# Altium footprint library con-wago.PCBLIB: 167 footprints (part 7 of 11)
Each footprint in its own frame and in the unit in brackets; x right, y up, seen from the top. Pads: shape width x height; smd on the part's side, far side on the other; paste and mask are expansions set on the pad; w line width, h text height; cw(c..) or ccw(c..) is an arc to the next point about the centre after c.
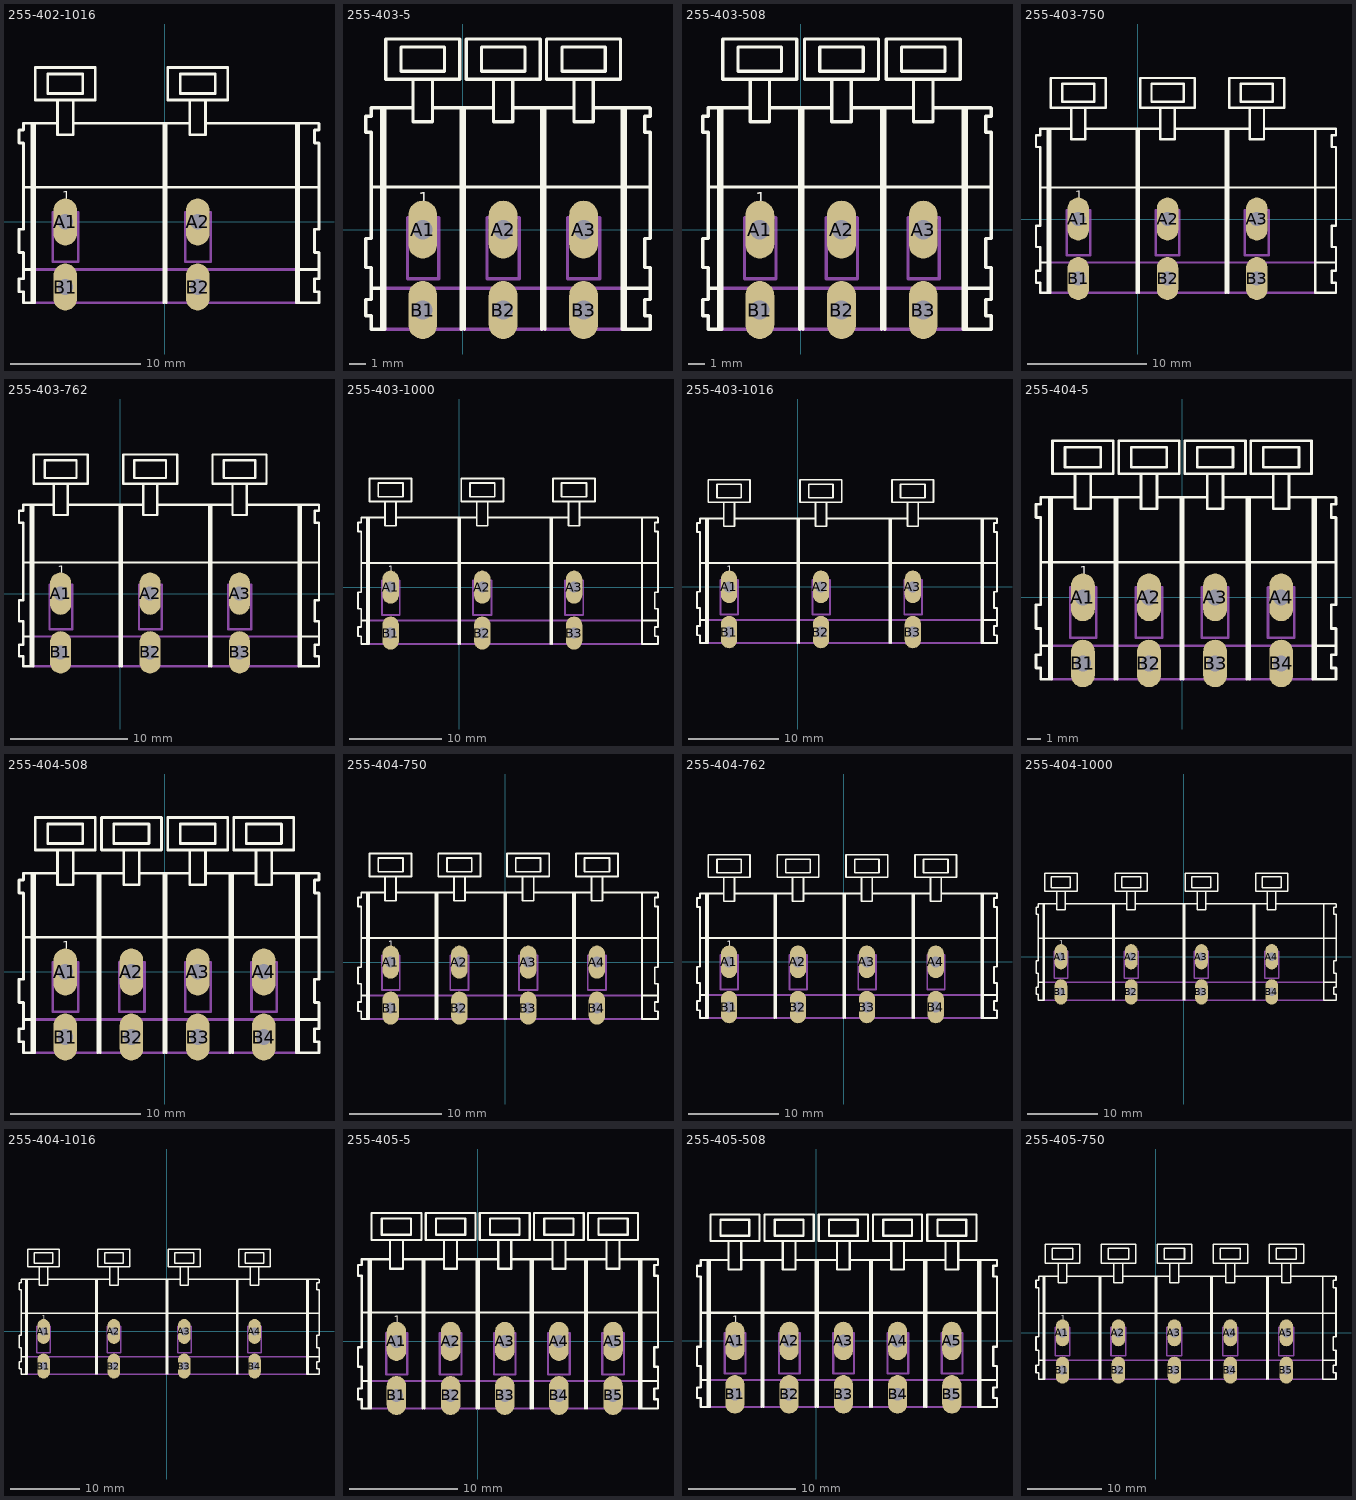
[diagram p6: the footprints below, top view; thin cyan lines are the x and y axes]

## 255-402-1016 [mm]
pads (4):
  oval 1.8x3.6 hole 1.2: A1(-7.62,0) A2(2.54,0) B1(-7.62,-5) B2(2.54,-5)
Top Overlay:
  lines w0.203: -10.82,-3.65 -10.12,-3.65 ; -10.77,2.65 11.8,2.65 ; -10.17,7.55 -10.17,-6.2 ; -9.97,7.55 -9.97,-6.2 -10.17,-6.2 ; -8.245,7.575 -10.82,7.575 -10.82,7.05 -11.17,7.05 -11.17,6.05 -10.82,6.05 -10.82,-0.55 -11.17,-0.55 -11.17,-2.35 -10.82,-2.35 -10.82,-4.35 -11.17,-4.35 -11.17,-5.35 -10.82,-5.35 -10.82,-6.2 -10.17,-6.2 ; -6.995,7.575 1.919,7.575 ; -0.06,-6.2 -0.06,7.55 ; 0.14,-6.2 0.14,7.55 ; 3.165,7.575 11.825,7.575 ; 10.1,7.55 10.1,-6.2 11.85,-6.2 11.85,-5.35 11.5,-5.35 11.5,-4.35 11.85,-4.35 11.85,-3.65 ; 10.15,-3.65 11.85,-3.65 ; 10.3,-6.2 10.3,7.55 ; 11.85,7.55 11.85,7.05 11.5,7.05 11.5,6.05 11.85,6.05 11.85,-0.55 11.5,-0.55 11.5,-2.35 11.85,-2.35 11.85,-3.65 ; -8.22,9.35 -9.92,9.35 -9.92,11.85 -5.32,11.85 -5.32,9.35 -7.02,9.35 ; -8.22,9.35 -7.02,9.35 ; -8.22,9.35 -8.22,6.7 -7.02,6.7 -7.02,9.35 ; 1.94,9.35 0.24,9.35 0.24,11.85 4.84,11.85 4.84,9.35 3.14,9.35 ; 1.94,9.35 3.14,9.35 ; 1.94,9.35 1.94,6.7 3.14,6.7 3.14,9.35 ; -8.97,9.85 -8.97,11.35 -6.27,11.35 -6.27,9.85 -8.97,9.85 ; 1.19,9.85 1.19,11.35 3.89,11.35 3.89,9.85 1.19,9.85
  text "1" at -7.87,1.35 h1.26
Mechanical 16:
  lines w0.203: -10.12,-3.65 10.1,-3.65 ; -9.97,-6.2 10.1,-6.2 ; -8.57,-3.05 -8.57,0.75 -6.62,0.75 -6.62,-3.05 -8.57,-3.05 ; 1.59,-3.05 1.59,0.75 3.54,0.75 3.54,-3.05 1.59,-3.05

## 255-403-5 [mm]
pads (6):
  oval 1.8x3.6 hole 1.2: A1(-2.5,0) A2(2.5,0) A3(7.5,0) B1(-2.5,-5) B2(2.5,-5) B3(7.5,-5)
Top Overlay:
  lines w0.203: -5.7,-3.65 -5,-3.65 ; -5.65,2.65 -0.1,2.65 ; -5.05,7.55 -5.05,-6.2 ; -4.85,7.55 -4.85,-6.2 -5.05,-6.2 ; -3.125,7.575 -5.7,7.575 -5.7,7.05 -6.05,7.05 -6.05,6.05 -5.7,6.05 -5.7,-0.55 -6.05,-0.55 -6.05,-2.35 -5.7,-2.35 -5.7,-4.35 -6.05,-4.35 -6.05,-5.35 -5.7,-5.35 -5.7,-6.2 -5.05,-6.2 ; -1.825,7.575 1.875,7.575 ; -0.1,-6.2 -0.1,2.65 ; -0.1,7.55 -0.1,2.65 ; 0.1,-6.2 0.1,2.65 ; 0.1,7.55 0.1,2.65 ; 3.125,7.575 6.875,7.575 ; 4.9,-6.2 4.9,2.65 ; 4.9,7.55 4.9,2.65 ; 5.1,-6.2 5.1,2.65 ; 5.1,7.55 5.1,2.65 ; 8.125,7.575 11.625,7.575 ; 9.9,7.55 9.9,2.65 ; 9.95,-3.65 11.65,-3.65 ; 10.1,7.55 10.1,2.65 ; 11.6,2.65 10.1,2.65 ; 11.65,7.55 11.65,7.05 11.3,7.05 11.3,6.05 11.65,6.05 11.65,-0.55 11.3,-0.55 11.3,-2.35 11.65,-2.35 11.65,-3.65 ; -3.1,9.35 -4.8,9.35 -4.8,11.85 -0.2,11.85 -0.2,9.35 -1.9,9.35 ; -3.1,9.35 -1.9,9.35 ; -3.1,9.35 -3.1,6.7 -1.9,6.7 -1.9,9.35 ; 0.1,2.65 4.9,2.65 ; 1.9,9.35 0.2,9.35 0.2,11.85 4.8,11.85 4.8,9.35 3.1,9.35 ; 1.9,9.35 3.1,9.35 ; 1.9,9.35 1.9,6.7 3.1,6.7 3.1,9.35 ; 4.9,2.65 5.1,2.65 ; 5.1,2.65 9.9,2.65 ; 6.9,9.35 5.2,9.35 5.2,11.85 9.8,11.85 9.8,9.35 8.1,9.35 ; 6.9,9.35 8.1,9.35 ; 6.9,9.35 6.9,6.7 8.1,6.7 8.1,9.35 ; 9.9,2.65 10.1,2.65 ; 9.9,2.65 9.9,-6.2 10.1,-6.2 ; 10.1,-6.2 11.65,-6.2 11.65,-5.35 11.3,-5.35 11.3,-4.35 11.65,-4.35 11.65,-3.65 ; 10.1,-6.2 10.1,2.65 ; -3.85,9.85 -3.85,11.35 -1.15,11.35 -1.15,9.85 -3.85,9.85 ; 1.15,9.85 1.15,11.35 3.85,11.35 3.85,9.85 1.15,9.85 ; 6.15,9.85 6.15,11.35 8.85,11.35 8.85,9.85 6.15,9.85
  text "1" at -2.75,1.35 h1.26
Mechanical 16:
  lines w0.203: -5,-3.65 9.9,-3.65 ; -4.85,-6.2 9.9,-6.2 ; -3.45,-3.05 -3.45,0.75 -1.5,0.75 -1.5,-3.05 -3.45,-3.05 ; 1.5,-3.05 1.5,0.75 3.5,0.75 3.5,-3.05 1.5,-3.05 ; 6.5,-3.05 6.5,0.75 8.5,0.75 8.5,-3.05 6.5,-3.05

## 255-403-508 [mm]
pads (6):
  oval 1.8x3.6 hole 1.2: A1(-2.54,0) A2(2.54,0) A3(7.62,0) B1(-2.54,-5) B2(2.54,-5) B3(7.62,-5)
Top Overlay:
  lines w0.203: -5.74,-3.65 -5.04,-3.65 ; -5.69,2.65 -0.61,2.65 ; -5.09,7.55 -5.09,-6.2 ; -4.89,7.55 -4.89,-6.2 -5.09,-6.2 ; -3.165,7.575 -5.74,7.575 -5.74,7.05 -6.09,7.05 -6.09,6.05 -5.74,6.05 -5.74,-0.55 -6.09,-0.55 -6.09,-2.35 -5.74,-2.35 -5.74,-4.35 -6.09,-4.35 -6.09,-5.35 -5.74,-5.35 -5.74,-6.2 -5.09,-6.2 ; -1.915,7.575 1.919,7.575 ; -0.06,-6.2 -0.06,2.65 ; -0.06,7.55 -0.06,2.65 ; 0.14,-6.2 0.14,7.55 ; 3.165,7.575 7.01,7.575 ; 5.02,-6.2 5.02,2.65 ; 5.02,7.55 5.02,2.65 ; 5.22,-6.2 5.22,7.55 ; 8.23,7.575 11.825,7.575 ; 10.1,7.55 10.1,2.65 ; 10.15,-3.65 11.85,-3.65 ; 10.3,-6.2 10.3,7.55 ; 11.8,2.65 10.1,2.65 ; 11.85,7.55 11.85,7.05 11.5,7.05 11.5,6.05 11.85,6.05 11.85,-0.55 11.5,-0.55 11.5,-2.35 11.85,-2.35 11.85,-3.65 ; -3.14,9.35 -4.84,9.35 -4.84,11.85 -0.24,11.85 -0.24,9.35 -1.94,9.35 ; -3.14,9.35 -1.94,9.35 ; -3.14,9.35 -3.14,6.7 -1.94,6.7 -1.94,9.35 ; -0.61,2.65 -0.06,2.65 ; -0.61,2.65 5.02,2.65 ; -0.06,2.65 5.02,2.65 ; 1.94,9.35 0.24,9.35 0.24,11.85 4.84,11.85 4.84,9.35 3.14,9.35 ; 1.94,9.35 3.14,9.35 ; 1.94,9.35 1.94,6.7 3.14,6.7 3.14,9.35 ; 5.02,2.65 10.1,2.65 ; 7.02,9.35 5.32,9.35 5.32,11.85 9.92,11.85 9.92,9.35 8.22,9.35 ; 7.02,9.35 8.22,9.35 ; 7.02,9.35 7.02,6.7 8.22,6.7 8.22,9.35 ; 10.1,2.65 10.1,-6.2 11.85,-6.2 11.85,-5.35 11.5,-5.35 11.5,-4.35 11.85,-4.35 11.85,-3.65 ; -3.89,9.85 -3.89,11.35 -1.19,11.35 -1.19,9.85 -3.89,9.85 ; 1.19,9.85 1.19,11.35 3.89,11.35 3.89,9.85 1.19,9.85 ; 6.27,9.85 6.27,11.35 8.97,11.35 8.97,9.85 6.27,9.85
  text "1" at -2.79,1.35 h1.26
Mechanical 16:
  lines w0.203: -5.04,-3.65 10.1,-3.65 ; -4.89,-6.2 10.1,-6.2 ; -3.49,-3.05 -3.49,0.75 -1.54,0.75 -1.54,-3.05 -3.49,-3.05 ; 1.59,-3.05 1.59,0.75 3.54,0.75 3.54,-3.05 1.59,-3.05 ; 6.67,-3.05 6.67,0.75 8.62,0.75 8.62,-3.05 6.67,-3.05

## 255-403-750 [mm]
pads (6):
  oval 1.8x3.6 hole 1.2: A1(-5,0) A2(2.5,0) A3(10,0) B1(-5,-5) B2(2.5,-5) B3(10,-5)
Top Overlay:
  lines w0.203: -8.2,-3.65 -7.5,-3.65 ; -8.15,2.65 16.6,2.65 ; -7.55,7.55 -7.55,-6.2 ; -7.35,7.55 -7.35,-6.2 -7.55,-6.2 ; -5.625,7.575 -8.2,7.575 -8.2,7.05 -8.55,7.05 -8.55,6.05 -8.2,6.05 -8.2,-0.55 -8.55,-0.55 -8.55,-2.35 -8.2,-2.35 -8.2,-4.35 -8.55,-4.35 -8.55,-5.35 -8.2,-5.35 -8.2,-6.2 -7.55,-6.2 ; -4.325,7.575 1.875,7.575 ; -0.1,-6.2 -0.1,7.55 ; 0.1,-6.2 0.1,7.55 ; 3.175,7.575 9.375,7.575 ; 7.4,-6.2 7.4,7.55 ; 7.6,-6.2 7.6,7.55 ; 10.625,7.575 16.625,7.575 ; 14.9,7.55 14.9,-6.2 16.65,-6.2 16.65,-5.35 16.3,-5.35 16.3,-4.35 16.65,-4.35 16.65,-3.65 ; 14.95,-3.65 16.65,-3.65 ; 16.65,7.55 16.65,7.05 16.3,7.05 16.3,6.05 16.65,6.05 16.65,-0.55 16.3,-0.55 16.3,-2.35 16.65,-2.35 16.65,-3.65 ; -5.6,9.35 -7.3,9.35 -7.3,11.85 -2.7,11.85 -2.7,9.35 -4.4,9.35 ; -5.6,9.35 -4.4,9.35 ; -5.6,9.35 -5.6,6.7 -4.4,6.7 -4.4,9.35 ; 1.9,9.35 0.2,9.35 0.2,11.85 4.8,11.85 4.8,9.35 3.1,9.35 ; 1.9,9.35 3.1,9.35 ; 1.9,9.35 1.9,6.7 3.1,6.7 3.1,9.35 ; 9.4,9.35 7.7,9.35 7.7,11.85 12.3,11.85 12.3,9.35 10.6,9.35 ; 9.4,9.35 10.6,9.35 ; 9.4,9.35 9.4,6.7 10.6,6.7 10.6,9.35 ; -6.35,9.85 -6.35,11.35 -3.65,11.35 -3.65,9.85 -6.35,9.85 ; 1.15,9.85 1.15,11.35 3.85,11.35 3.85,9.85 1.15,9.85 ; 8.65,9.85 8.65,11.35 11.35,11.35 11.35,9.85 8.65,9.85
  text "1" at -5.25,1.35 h1.26
Mechanical 16:
  lines w0.203: -7.5,-3.65 14.9,-3.65 ; -7.35,-6.2 14.9,-6.2 ; -5.95,-3.05 -5.95,0.75 -4,0.75 -4,-3.05 -5.95,-3.05 ; 1.5,-3.05 1.5,0.75 3.5,0.75 3.5,-3.05 1.5,-3.05 ; 9,-3.05 9,0.75 11,0.75 11,-3.05 9,-3.05

## 255-403-762 [mm]
pads (6):
  oval 1.8x3.6 hole 1.2: A1(-5.08,0) A2(2.54,0) A3(10.16,0) B1(-5.08,-5) B2(2.54,-5) B3(10.16,-5)
Top Overlay:
  lines w0.203: -8.28,-3.65 -7.58,-3.65 ; -8.23,2.65 16.88,2.65 ; -7.63,7.55 -7.63,-6.2 ; -7.43,7.55 -7.43,-6.2 -7.63,-6.2 ; -5.705,7.575 -8.28,7.575 -8.28,7.05 -8.63,7.05 -8.63,6.05 -8.28,6.05 -8.28,-0.55 -8.63,-0.55 -8.63,-2.35 -8.28,-2.35 -8.28,-4.35 -8.63,-4.35 -8.63,-5.35 -8.28,-5.35 -8.28,-6.2 -7.63,-6.2 ; -4.455,7.575 1.919,7.575 ; -0.06,-6.2 -0.06,7.55 ; 0.14,-6.2 0.14,7.55 ; 3.165,7.575 9.539,7.575 ; 7.56,-6.2 7.56,7.55 ; 7.76,-6.2 7.76,7.55 ; 10.785,7.575 16.905,7.575 ; 15.18,7.55 15.18,-6.2 16.93,-6.2 16.93,-5.35 16.58,-5.35 16.58,-4.35 16.93,-4.35 16.93,-3.65 ; 15.23,-3.65 16.93,-3.65 ; 15.38,-6.2 15.38,7.55 ; 16.93,7.55 16.93,7.05 16.58,7.05 16.58,6.05 16.93,6.05 16.93,-0.55 16.58,-0.55 16.58,-2.35 16.93,-2.35 16.93,-3.65 ; -5.68,9.35 -7.38,9.35 -7.38,11.85 -2.78,11.85 -2.78,9.35 -4.48,9.35 ; -5.68,9.35 -4.48,9.35 ; -5.68,9.35 -5.68,6.7 -4.48,6.7 -4.48,9.35 ; 1.94,9.35 0.24,9.35 0.24,11.85 4.84,11.85 4.84,9.35 3.14,9.35 ; 1.94,9.35 3.14,9.35 ; 1.94,9.35 1.94,6.7 3.14,6.7 3.14,9.35 ; 9.56,9.35 7.86,9.35 7.86,11.85 12.46,11.85 12.46,9.35 10.76,9.35 ; 9.56,9.35 10.76,9.35 ; 9.56,9.35 9.56,6.7 10.76,6.7 10.76,9.35 ; -6.43,9.85 -6.43,11.35 -3.73,11.35 -3.73,9.85 -6.43,9.85 ; 1.19,9.85 1.19,11.35 3.89,11.35 3.89,9.85 1.19,9.85 ; 8.81,9.85 8.81,11.35 11.51,11.35 11.51,9.85 8.81,9.85
  text "1" at -5.33,1.35 h1.26
Mechanical 16:
  lines w0.203: -7.58,-3.65 15.18,-3.65 ; -7.43,-6.2 15.18,-6.2 ; -6.03,-3.05 -6.03,0.75 -4.08,0.75 -4.08,-3.05 -6.03,-3.05 ; 1.59,-3.05 1.59,0.75 3.54,0.75 3.54,-3.05 1.59,-3.05 ; 9.21,-3.05 9.21,0.75 11.16,0.75 11.16,-3.05 9.21,-3.05

## 255-403-1000 [mm]
pads (6):
  oval 1.8x3.6 hole 1.2: A1(-7.5,0) A2(2.5,0) A3(12.5,0) B1(-7.5,-5) B2(2.5,-5) B3(12.5,-5)
Top Overlay:
  lines w0.203: -10.7,-3.65 -10,-3.65 ; -10.65,2.65 21.6,2.65 ; -10.05,7.55 -10.05,-6.2 ; -9.85,7.55 -9.85,-6.2 -10.05,-6.2 ; -8.125,7.575 -10.7,7.575 -10.7,7.05 -11.05,7.05 -11.05,6.05 -10.7,6.05 -10.7,-0.55 -11.05,-0.55 -11.05,-2.35 -10.7,-2.35 -10.7,-4.35 -11.05,-4.35 -11.05,-5.35 -10.7,-5.35 -10.7,-6.2 -10.05,-6.2 ; -6.825,7.575 1.875,7.575 ; -0.1,-6.2 -0.1,7.55 ; 0.1,-6.2 0.1,7.55 ; 3.175,7.575 11.875,7.575 ; 9.9,-6.2 9.9,7.55 ; 10.1,-6.2 10.1,7.55 ; 13.125,7.575 21.625,7.575 ; 19.9,7.55 19.9,-6.2 21.65,-6.2 21.65,-5.35 21.3,-5.35 21.3,-4.35 21.65,-4.35 21.65,-3.65 ; 19.95,-3.65 21.65,-3.65 ; 21.65,7.55 21.65,7.05 21.3,7.05 21.3,6.05 21.65,6.05 21.65,-0.55 21.3,-0.55 21.3,-2.35 21.65,-2.35 21.65,-3.65 ; -8.1,9.35 -9.8,9.35 -9.8,11.85 -5.2,11.85 -5.2,9.35 -6.9,9.35 ; -8.1,9.35 -6.9,9.35 ; -8.1,9.35 -8.1,6.7 -6.9,6.7 -6.9,9.35 ; 1.9,9.35 0.2,9.35 0.2,11.85 4.8,11.85 4.8,9.35 3.1,9.35 ; 1.9,9.35 3.1,9.35 ; 1.9,9.35 1.9,6.7 3.1,6.7 3.1,9.35 ; 11.9,9.35 10.2,9.35 10.2,11.85 14.8,11.85 14.8,9.35 13.1,9.35 ; 11.9,9.35 13.1,9.35 ; 11.9,9.35 11.9,6.7 13.1,6.7 13.1,9.35 ; -8.85,9.85 -8.85,11.35 -6.15,11.35 -6.15,9.85 -8.85,9.85 ; 1.15,9.85 1.15,11.35 3.85,11.35 3.85,9.85 1.15,9.85 ; 11.15,9.85 11.15,11.35 13.85,11.35 13.85,9.85 11.15,9.85
  text "1" at -7.75,1.35 h1.26
Mechanical 16:
  lines w0.203: -10,-3.65 19.9,-3.65 ; -9.85,-6.2 19.9,-6.2 ; -8.45,-3.05 -8.45,0.75 -6.5,0.75 -6.5,-3.05 -8.45,-3.05 ; 1.5,-3.05 1.5,0.75 3.5,0.75 3.5,-3.05 1.5,-3.05 ; 11.5,-3.05 11.5,0.75 13.5,0.75 13.5,-3.05 11.5,-3.05

## 255-403-1016 [mm]
pads (6):
  oval 1.8x3.6 hole 1.2: A1(-7.62,0) A2(2.54,0) A3(12.7,0) B1(-7.62,-5) B2(2.54,-5) B3(12.7,-5)
Top Overlay:
  lines w0.203: -10.82,-3.65 -10.12,-3.65 ; -10.77,2.65 21.96,2.65 ; -10.17,7.55 -10.17,-6.2 ; -9.97,7.55 -9.97,-6.2 -10.17,-6.2 ; -8.245,7.575 -10.82,7.575 -10.82,7.05 -11.17,7.05 -11.17,6.05 -10.82,6.05 -10.82,-0.55 -11.17,-0.55 -11.17,-2.35 -10.82,-2.35 -10.82,-4.35 -11.17,-4.35 -11.17,-5.35 -10.82,-5.35 -10.82,-6.2 -10.17,-6.2 ; -6.995,7.575 1.919,7.575 ; -0.06,-6.2 -0.06,7.55 ; 0.14,-6.2 0.14,7.55 ; 3.165,7.575 12.079,7.575 ; 10.1,-6.2 10.1,7.55 ; 10.3,-6.2 10.3,7.55 ; 13.325,7.575 21.985,7.575 ; 20.26,7.55 20.26,-6.2 22.01,-6.2 22.01,-5.35 21.66,-5.35 21.66,-4.35 22.01,-4.35 22.01,-3.65 ; 20.31,-3.65 22.01,-3.65 ; 20.46,-6.2 20.46,7.55 ; 22.01,7.55 22.01,7.05 21.66,7.05 21.66,6.05 22.01,6.05 22.01,-0.55 21.66,-0.55 21.66,-2.35 22.01,-2.35 22.01,-3.65 ; -8.22,9.35 -9.92,9.35 -9.92,11.85 -5.32,11.85 -5.32,9.35 -7.02,9.35 ; -8.22,9.35 -7.02,9.35 ; -8.22,9.35 -8.22,6.7 -7.02,6.7 -7.02,9.35 ; 1.94,9.35 0.24,9.35 0.24,11.85 4.84,11.85 4.84,9.35 3.14,9.35 ; 1.94,9.35 3.14,9.35 ; 1.94,9.35 1.94,6.7 3.14,6.7 3.14,9.35 ; 12.1,9.35 10.4,9.35 10.4,11.85 15,11.85 15,9.35 13.3,9.35 ; 12.1,9.35 13.3,9.35 ; 12.1,9.35 12.1,6.7 13.3,6.7 13.3,9.35 ; -8.97,9.85 -8.97,11.35 -6.27,11.35 -6.27,9.85 -8.97,9.85 ; 1.19,9.85 1.19,11.35 3.89,11.35 3.89,9.85 1.19,9.85 ; 11.35,9.85 11.35,11.35 14.05,11.35 14.05,9.85 11.35,9.85
  text "1" at -7.87,1.35 h1.26
Mechanical 16:
  lines w0.203: -10.12,-3.65 20.26,-3.65 ; -9.97,-6.2 20.26,-6.2 ; -8.57,-3.05 -8.57,0.75 -6.62,0.75 -6.62,-3.05 -8.57,-3.05 ; 1.59,-3.05 1.59,0.75 3.54,0.75 3.54,-3.05 1.59,-3.05 ; 11.75,-3.05 11.75,0.75 13.7,0.75 13.7,-3.05 11.75,-3.05

## 255-404-5 [mm]
pads (8):
  oval 1.8x3.6 hole 1.2: A1(-7.5,0) A2(-2.5,0) A3(2.5,0) A4(7.5,0) B1(-7.5,-5) B2(-2.5,-5) B3(2.5,-5) B4(7.5,-5)
Top Overlay:
  lines w0.203: -10.7,-3.65 -10,-3.65 ; -10.65,2.65 -5.1,2.65 ; -10.05,7.55 -10.05,-6.2 ; -9.85,7.55 -9.85,-6.2 -10.05,-6.2 ; -8.125,7.575 -10.7,7.575 -10.7,7.05 -11.05,7.05 -11.05,6.05 -10.7,6.05 -10.7,-0.55 -11.05,-0.55 -11.05,-2.35 -10.7,-2.35 -10.7,-4.35 -11.05,-4.35 -11.05,-5.35 -10.7,-5.35 -10.7,-6.2 -10.05,-6.2 ; -6.825,7.575 -3.125,7.575 ; -5.1,-6.2 -5.1,2.65 ; -5.1,7.55 -5.1,2.65 ; -4.9,-6.2 -4.9,2.65 ; -4.9,7.55 -4.9,2.65 ; -1.875,7.575 1.875,7.575 ; -0.1,-6.2 -0.1,2.65 ; -0.1,7.55 -0.1,2.65 ; 0.1,-6.2 0.1,2.65 ; 0.1,7.55 0.1,2.65 ; 3.125,7.575 6.875,7.575 ; 4.9,-6.2 4.9,2.65 ; 4.9,7.55 4.9,2.65 ; 5.1,-6.2 5.1,2.65 ; 5.1,7.55 5.1,2.65 ; 8.125,7.575 11.625,7.575 ; 9.9,7.55 9.9,2.65 ; 9.95,-3.65 11.65,-3.65 ; 10.1,7.55 10.1,2.65 ; 11.6,2.65 10.1,2.65 ; 11.65,7.55 11.65,7.05 11.3,7.05 11.3,6.05 11.65,6.05 11.65,-0.55 11.3,-0.55 11.3,-2.35 11.65,-2.35 11.65,-3.65 ; -8.1,9.35 -9.8,9.35 -9.8,11.85 -5.2,11.85 -5.2,9.35 -6.9,9.35 ; -8.1,9.35 -6.9,9.35 ; -8.1,9.35 -8.1,6.7 -6.9,6.7 -6.9,9.35 ; -4.9,2.65 -0.1,2.65 ; -3.1,9.35 -4.8,9.35 -4.8,11.85 -0.2,11.85 -0.2,9.35 -1.9,9.35 ; -3.1,9.35 -1.9,9.35 ; -3.1,9.35 -3.1,6.7 -1.9,6.7 -1.9,9.35 ; -0.1,2.65 0.1,2.65 ; 0.1,2.65 4.9,2.65 ; 1.9,9.35 0.2,9.35 0.2,11.85 4.8,11.85 4.8,9.35 3.1,9.35 ; 1.9,9.35 3.1,9.35 ; 1.9,9.35 1.9,6.7 3.1,6.7 3.1,9.35 ; 4.9,2.65 9.9,2.65 ; 4.9,2.65 5.1,2.65 ; 6.9,9.35 5.2,9.35 5.2,11.85 9.8,11.85 9.8,9.35 8.1,9.35 ; 6.9,9.35 8.1,9.35 ; 6.9,9.35 6.9,6.7 8.1,6.7 8.1,9.35 ; 9.9,2.65 10.1,2.65 ; 9.9,2.65 9.9,-6.2 10.1,-6.2 ; 10.1,-6.2 11.65,-6.2 11.65,-5.35 11.3,-5.35 11.3,-4.35 11.65,-4.35 11.65,-3.65 ; 10.1,-6.2 10.1,2.65 ; -8.85,9.85 -8.85,11.35 -6.15,11.35 -6.15,9.85 -8.85,9.85 ; -3.85,9.85 -3.85,11.35 -1.15,11.35 -1.15,9.85 -3.85,9.85 ; 1.15,9.85 1.15,11.35 3.85,11.35 3.85,9.85 1.15,9.85 ; 6.15,9.85 6.15,11.35 8.85,11.35 8.85,9.85 6.15,9.85
  text "1" at -7.75,1.35 h1.26
Mechanical 16:
  lines w0.203: -10,-3.65 9.9,-3.65 ; -9.85,-6.2 9.9,-6.2 ; -8.45,-3.05 -8.45,0.75 -6.5,0.75 -6.5,-3.05 -8.45,-3.05 ; -3.5,-3.05 -3.5,0.75 -1.5,0.75 -1.5,-3.05 -3.5,-3.05 ; 1.5,-3.05 1.5,0.75 3.5,0.75 3.5,-3.05 1.5,-3.05 ; 6.5,-3.05 6.5,0.75 8.5,0.75 8.5,-3.05 6.5,-3.05

## 255-404-508 [mm]
pads (8):
  oval 1.8x3.6 hole 1.2: A1(-7.62,0) A2(-2.54,0) A3(2.54,0) A4(7.62,0) B1(-7.62,-5) B2(-2.54,-5) B3(2.54,-5) B4(7.62,-5)
Top Overlay:
  lines w0.203: -10.82,-3.65 -10.12,-3.65 ; -10.77,2.65 -5.69,2.65 ; -10.17,7.55 -10.17,-6.2 ; -9.97,7.55 -9.97,-6.2 -10.17,-6.2 ; -8.245,7.575 -10.82,7.575 -10.82,7.05 -11.17,7.05 -11.17,6.05 -10.82,6.05 -10.82,-0.55 -11.17,-0.55 -11.17,-2.35 -10.82,-2.35 -10.82,-4.35 -11.17,-4.35 -11.17,-5.35 -10.82,-5.35 -10.82,-6.2 -10.17,-6.2 ; -6.995,7.575 -3.161,7.575 ; -5.14,-6.2 -5.14,2.65 ; -5.14,7.55 -5.14,2.65 ; -4.94,-6.2 -4.94,7.55 ; -1.915,7.575 1.93,7.575 ; -0.61,2.65 5.02,2.65 ; -0.06,-6.2 -0.06,2.65 ; -0.06,7.55 -0.06,2.65 ; 0.14,-6.2 0.14,7.55 ; 3.165,7.575 7.01,7.575 ; 5.02,-6.2 5.02,2.65 ; 5.02,7.55 5.02,2.65 ; 5.22,-6.2 5.22,7.55 ; 8.23,7.575 11.825,7.575 ; 10.1,7.55 10.1,2.65 ; 10.15,-3.65 11.85,-3.65 ; 10.3,-6.2 10.3,7.55 ; 11.8,2.65 10.1,2.65 ; 11.85,7.55 11.85,7.05 11.5,7.05 11.5,6.05 11.85,6.05 11.85,-0.55 11.5,-0.55 11.5,-2.35 11.85,-2.35 11.85,-3.65 ; -8.22,9.35 -9.92,9.35 -9.92,11.85 -5.32,11.85 -5.32,9.35 -7.02,9.35 ; -8.22,9.35 -7.02,9.35 ; -8.22,9.35 -8.22,6.7 -7.02,6.7 -7.02,9.35 ; -5.69,2.65 -5.14,2.65 ; -5.69,2.65 -0.06,2.65 ; -5.14,2.65 -0.06,2.65 ; -3.14,9.35 -4.84,9.35 -4.84,11.85 -0.24,11.85 -0.24,9.35 -1.94,9.35 ; -3.14,9.35 -1.94,9.35 ; -3.14,9.35 -3.14,6.7 -1.94,6.7 -1.94,9.35 ; -0.06,2.65 10.1,2.65 ; -0.06,2.65 5.02,2.65 ; 1.94,9.35 0.24,9.35 0.24,11.85 4.84,11.85 4.84,9.35 3.14,9.35 ; 1.94,9.35 3.14,9.35 ; 1.94,9.35 1.94,6.7 3.14,6.7 3.14,9.35 ; 7.02,9.35 5.32,9.35 5.32,11.85 9.92,11.85 9.92,9.35 8.22,9.35 ; 7.02,9.35 8.22,9.35 ; 7.02,9.35 7.02,6.7 8.22,6.7 8.22,9.35 ; 10.1,2.65 10.1,-6.2 11.85,-6.2 11.85,-5.35 11.5,-5.35 11.5,-4.35 11.85,-4.35 11.85,-3.65 ; -8.97,9.85 -8.97,11.35 -6.27,11.35 -6.27,9.85 -8.97,9.85 ; -3.89,9.85 -3.89,11.35 -1.19,11.35 -1.19,9.85 -3.89,9.85 ; 1.19,9.85 1.19,11.35 3.89,11.35 3.89,9.85 1.19,9.85 ; 6.27,9.85 6.27,11.35 8.97,11.35 8.97,9.85 6.27,9.85
  text "1" at -7.87,1.35 h1.26
Mechanical 16:
  lines w0.203: -10.12,-3.65 10.1,-3.65 ; -9.97,-6.2 10.1,-6.2 ; -8.57,-3.05 -8.57,0.75 -6.62,0.75 -6.62,-3.05 -8.57,-3.05 ; -3.49,-3.05 -3.49,0.75 -1.54,0.75 -1.54,-3.05 -3.49,-3.05 ; 1.59,-3.05 1.59,0.75 3.54,0.75 3.54,-3.05 1.59,-3.05 ; 6.67,-3.05 6.67,0.75 8.62,0.75 8.62,-3.05 6.67,-3.05

## 255-404-750 [mm]
pads (8):
  oval 1.8x3.6 hole 1.2: A1(-12.5,0) A2(-5,0) A3(2.5,0) A4(10,0) B1(-12.5,-5) B2(-5,-5) B3(2.5,-5) B4(10,-5)
Top Overlay:
  lines w0.203: -15.7,-3.65 -15,-3.65 ; -15.65,2.65 16.6,2.65 ; -15.05,7.55 -15.05,-6.2 ; -14.85,7.55 -14.85,-6.2 -15.05,-6.2 ; -13.125,7.575 -15.7,7.575 -15.7,7.05 -16.05,7.05 -16.05,6.05 -15.7,6.05 -15.7,-0.55 -16.05,-0.55 -16.05,-2.35 -15.7,-2.35 -15.7,-4.35 -16.05,-4.35 -16.05,-5.35 -15.7,-5.35 -15.7,-6.2 -15.05,-6.2 ; -11.825,7.575 -5.625,7.575 ; -7.6,-6.2 -7.6,7.55 ; -7.4,-6.2 -7.4,7.55 ; -4.325,7.575 1.875,7.575 ; -0.1,-6.2 -0.1,7.55 ; 0.1,-6.2 0.1,7.55 ; 3.175,7.575 9.375,7.575 ; 7.4,-6.2 7.4,7.55 ; 7.6,-6.2 7.6,7.55 ; 10.625,7.575 16.625,7.575 ; 14.9,7.55 14.9,-6.2 16.65,-6.2 16.65,-5.35 16.3,-5.35 16.3,-4.35 16.65,-4.35 16.65,-3.65 ; 14.95,-3.65 16.65,-3.65 ; 16.65,7.55 16.65,7.05 16.3,7.05 16.3,6.05 16.65,6.05 16.65,-0.55 16.3,-0.55 16.3,-2.35 16.65,-2.35 16.65,-3.65 ; -13.1,9.35 -14.8,9.35 -14.8,11.85 -10.2,11.85 -10.2,9.35 -11.9,9.35 ; -13.1,9.35 -11.9,9.35 ; -13.1,9.35 -13.1,6.7 -11.9,6.7 -11.9,9.35 ; -5.6,9.35 -7.3,9.35 -7.3,11.85 -2.7,11.85 -2.7,9.35 -4.4,9.35 ; -5.6,9.35 -4.4,9.35 ; -5.6,9.35 -5.6,6.7 -4.4,6.7 -4.4,9.35 ; 1.9,9.35 0.2,9.35 0.2,11.85 4.8,11.85 4.8,9.35 3.1,9.35 ; 1.9,9.35 3.1,9.35 ; 1.9,9.35 1.9,6.7 3.1,6.7 3.1,9.35 ; 9.4,9.35 7.7,9.35 7.7,11.85 12.3,11.85 12.3,9.35 10.6,9.35 ; 9.4,9.35 10.6,9.35 ; 9.4,9.35 9.4,6.7 10.6,6.7 10.6,9.35 ; -13.85,9.85 -13.85,11.35 -11.15,11.35 -11.15,9.85 -13.85,9.85 ; -6.35,9.85 -6.35,11.35 -3.65,11.35 -3.65,9.85 -6.35,9.85 ; 1.15,9.85 1.15,11.35 3.85,11.35 3.85,9.85 1.15,9.85 ; 8.65,9.85 8.65,11.35 11.35,11.35 11.35,9.85 8.65,9.85
  text "1" at -12.75,1.35 h1.26
Mechanical 16:
  lines w0.203: -15,-3.65 14.9,-3.65 ; -14.85,-6.2 14.9,-6.2 ; -13.45,-3.05 -13.45,0.75 -11.5,0.75 -11.5,-3.05 -13.45,-3.05 ; -6,-3.05 -6,0.75 -4,0.75 -4,-3.05 -6,-3.05 ; 1.5,-3.05 1.5,0.75 3.5,0.75 3.5,-3.05 1.5,-3.05 ; 9,-3.05 9,0.75 11,0.75 11,-3.05 9,-3.05

## 255-404-762 [mm]
pads (8):
  oval 1.8x3.6 hole 1.2: A1(-12.7,0) A2(-5.08,0) A3(2.54,0) A4(10.16,0) B1(-12.7,-5) B2(-5.08,-5) B3(2.54,-5) B4(10.16,-5)
Top Overlay:
  lines w0.203: -15.9,-3.65 -15.2,-3.65 ; -15.85,2.65 16.88,2.65 ; -15.25,7.55 -15.25,-6.2 ; -15.05,7.55 -15.05,-6.2 -15.25,-6.2 ; -13.325,7.575 -15.9,7.575 -15.9,7.05 -16.25,7.05 -16.25,6.05 -15.9,6.05 -15.9,-0.55 -16.25,-0.55 -16.25,-2.35 -15.9,-2.35 -15.9,-4.35 -16.25,-4.35 -16.25,-5.35 -15.9,-5.35 -15.9,-6.2 -15.25,-6.2 ; -12.075,7.575 -5.701,7.575 ; -7.68,-6.2 -7.68,7.55 ; -7.48,-6.2 -7.48,7.55 ; -4.455,7.575 1.919,7.575 ; -0.06,-6.2 -0.06,7.55 ; 0.14,-6.2 0.14,7.55 ; 3.165,7.575 9.539,7.575 ; 7.56,-6.2 7.56,7.55 ; 7.76,-6.2 7.76,7.55 ; 10.785,7.575 16.905,7.575 ; 15.18,7.55 15.18,-6.2 16.93,-6.2 16.93,-5.35 16.58,-5.35 16.58,-4.35 16.93,-4.35 16.93,-3.65 ; 15.23,-3.65 16.93,-3.65 ; 15.38,-6.2 15.38,7.55 ; 16.93,7.55 16.93,7.05 16.58,7.05 16.58,6.05 16.93,6.05 16.93,-0.55 16.58,-0.55 16.58,-2.35 16.93,-2.35 16.93,-3.65 ; -13.3,9.35 -15,9.35 -15,11.85 -10.4,11.85 -10.4,9.35 -12.1,9.35 ; -13.3,9.35 -12.1,9.35 ; -13.3,9.35 -13.3,6.7 -12.1,6.7 -12.1,9.35 ; -5.68,9.35 -7.38,9.35 -7.38,11.85 -2.78,11.85 -2.78,9.35 -4.48,9.35 ; -5.68,9.35 -4.48,9.35 ; -5.68,9.35 -5.68,6.7 -4.48,6.7 -4.48,9.35 ; 1.94,9.35 0.24,9.35 0.24,11.85 4.84,11.85 4.84,9.35 3.14,9.35 ; 1.94,9.35 3.14,9.35 ; 1.94,9.35 1.94,6.7 3.14,6.7 3.14,9.35 ; 9.56,9.35 7.86,9.35 7.86,11.85 12.46,11.85 12.46,9.35 10.76,9.35 ; 9.56,9.35 10.76,9.35 ; 9.56,9.35 9.56,6.7 10.76,6.7 10.76,9.35 ; -14.05,9.85 -14.05,11.35 -11.35,11.35 -11.35,9.85 -14.05,9.85 ; -6.43,9.85 -6.43,11.35 -3.73,11.35 -3.73,9.85 -6.43,9.85 ; 1.19,9.85 1.19,11.35 3.89,11.35 3.89,9.85 1.19,9.85 ; 8.81,9.85 8.81,11.35 11.51,11.35 11.51,9.85 8.81,9.85
  text "1" at -12.95,1.35 h1.26
Mechanical 16:
  lines w0.203: -15.2,-3.65 15.18,-3.65 ; -15.05,-6.2 15.18,-6.2 ; -13.65,-3.05 -13.65,0.75 -11.7,0.75 -11.7,-3.05 -13.65,-3.05 ; -6.03,-3.05 -6.03,0.75 -4.08,0.75 -4.08,-3.05 -6.03,-3.05 ; 1.59,-3.05 1.59,0.75 3.54,0.75 3.54,-3.05 1.59,-3.05 ; 9.21,-3.05 9.21,0.75 11.16,0.75 11.16,-3.05 9.21,-3.05

## 255-404-1000 [mm]
pads (8):
  oval 1.8x3.6 hole 1.2: A1(-17.5,0) A2(-7.5,0) A3(2.5,0) A4(12.5,0) B1(-17.5,-5) B2(-7.5,-5) B3(2.5,-5) B4(12.5,-5)
Top Overlay:
  lines w0.203: -20.7,-3.65 -20,-3.65 ; -20.65,2.65 21.6,2.65 ; -20.05,7.55 -20.05,-6.2 ; -19.85,7.55 -19.85,-6.2 -20.05,-6.2 ; -18.125,7.575 -20.7,7.575 -20.7,7.05 -21.05,7.05 -21.05,6.05 -20.7,6.05 -20.7,-0.55 -21.05,-0.55 -21.05,-2.35 -20.7,-2.35 -20.7,-4.35 -21.05,-4.35 -21.05,-5.35 -20.7,-5.35 -20.7,-6.2 -20.05,-6.2 ; -16.825,7.575 -8.125,7.575 ; -10.1,-6.2 -10.1,7.55 ; -9.9,-6.2 -9.9,7.55 ; -6.825,7.575 1.875,7.575 ; -0.1,-6.2 -0.1,7.55 ; 0.1,-6.2 0.1,7.55 ; 3.175,7.575 11.875,7.575 ; 9.9,-6.2 9.9,7.55 ; 10.1,-6.2 10.1,7.55 ; 13.125,7.575 21.625,7.575 ; 19.9,7.55 19.9,-6.2 21.65,-6.2 21.65,-5.35 21.3,-5.35 21.3,-4.35 21.65,-4.35 21.65,-3.65 ; 19.95,-3.65 21.65,-3.65 ; 21.65,7.55 21.65,7.05 21.3,7.05 21.3,6.05 21.65,6.05 21.65,-0.55 21.3,-0.55 21.3,-2.35 21.65,-2.35 21.65,-3.65 ; -18.1,9.35 -19.8,9.35 -19.8,11.85 -15.2,11.85 -15.2,9.35 -16.9,9.35 ; -18.1,9.35 -16.9,9.35 ; -18.1,9.35 -18.1,6.7 -16.9,6.7 -16.9,9.35 ; -8.1,9.35 -9.8,9.35 -9.8,11.85 -5.2,11.85 -5.2,9.35 -6.9,9.35 ; -8.1,9.35 -6.9,9.35 ; -8.1,9.35 -8.1,6.7 -6.9,6.7 -6.9,9.35 ; 1.9,9.35 0.2,9.35 0.2,11.85 4.8,11.85 4.8,9.35 3.1,9.35 ; 1.9,9.35 3.1,9.35 ; 1.9,9.35 1.9,6.7 3.1,6.7 3.1,9.35 ; 11.9,9.35 10.2,9.35 10.2,11.85 14.8,11.85 14.8,9.35 13.1,9.35 ; 11.9,9.35 13.1,9.35 ; 11.9,9.35 11.9,6.7 13.1,6.7 13.1,9.35 ; -18.85,9.85 -18.85,11.35 -16.15,11.35 -16.15,9.85 -18.85,9.85 ; -8.85,9.85 -8.85,11.35 -6.15,11.35 -6.15,9.85 -8.85,9.85 ; 1.15,9.85 1.15,11.35 3.85,11.35 3.85,9.85 1.15,9.85 ; 11.15,9.85 11.15,11.35 13.85,11.35 13.85,9.85 11.15,9.85
  text "1" at -17.75,1.35 h1.26
Mechanical 16:
  lines w0.203: -20,-3.65 19.9,-3.65 ; -19.85,-6.2 19.9,-6.2 ; -18.45,-3.05 -18.45,0.75 -16.5,0.75 -16.5,-3.05 -18.45,-3.05 ; -8.5,-3.05 -8.5,0.75 -6.5,0.75 -6.5,-3.05 -8.5,-3.05 ; 1.5,-3.05 1.5,0.75 3.5,0.75 3.5,-3.05 1.5,-3.05 ; 11.5,-3.05 11.5,0.75 13.5,0.75 13.5,-3.05 11.5,-3.05

## 255-404-1016 [mm]
pads (8):
  oval 1.8x3.6 hole 1.2: A1(-17.78,0) A2(-7.62,0) A3(2.54,0) A4(12.7,0) B1(-17.78,-5) B2(-7.62,-5) B3(2.54,-5) B4(12.7,-5)
Top Overlay:
  lines w0.203: -20.98,-3.65 -20.28,-3.65 ; -20.93,2.65 21.96,2.65 ; -20.33,7.55 -20.33,-6.2 ; -20.13,7.55 -20.13,-6.2 -20.33,-6.2 ; -18.405,7.575 -20.98,7.575 -20.98,7.05 -21.33,7.05 -21.33,6.05 -20.98,6.05 -20.98,-0.55 -21.33,-0.55 -21.33,-2.35 -20.98,-2.35 -20.98,-4.35 -21.33,-4.35 -21.33,-5.35 -20.98,-5.35 -20.98,-6.2 -20.33,-6.2 ; -17.155,7.575 -8.241,7.575 ; -10.22,-6.2 -10.22,7.55 ; -10.02,-6.2 -10.02,7.55 ; -6.995,7.575 1.919,7.575 ; -0.06,-6.2 -0.06,7.55 ; 0.14,-6.2 0.14,7.55 ; 3.165,7.575 12.079,7.575 ; 10.1,-6.2 10.1,7.55 ; 10.3,-6.2 10.3,7.55 ; 13.325,7.575 21.985,7.575 ; 20.26,7.55 20.26,-6.2 22.01,-6.2 22.01,-5.35 21.66,-5.35 21.66,-4.35 22.01,-4.35 22.01,-3.65 ; 20.31,-3.65 22.01,-3.65 ; 20.46,-6.2 20.46,7.55 ; 22.01,7.55 22.01,7.05 21.66,7.05 21.66,6.05 22.01,6.05 22.01,-0.55 21.66,-0.55 21.66,-2.35 22.01,-2.35 22.01,-3.65 ; -18.38,9.35 -20.08,9.35 -20.08,11.85 -15.48,11.85 -15.48,9.35 -17.18,9.35 ; -18.38,9.35 -17.18,9.35 ; -18.38,9.35 -18.38,6.7 -17.18,6.7 -17.18,9.35 ; -8.22,9.35 -9.92,9.35 -9.92,11.85 -5.32,11.85 -5.32,9.35 -7.02,9.35 ; -8.22,9.35 -7.02,9.35 ; -8.22,9.35 -8.22,6.7 -7.02,6.7 -7.02,9.35 ; 1.94,9.35 0.24,9.35 0.24,11.85 4.84,11.85 4.84,9.35 3.14,9.35 ; 1.94,9.35 3.14,9.35 ; 1.94,9.35 1.94,6.7 3.14,6.7 3.14,9.35 ; 12.1,9.35 10.4,9.35 10.4,11.85 15,11.85 15,9.35 13.3,9.35 ; 12.1,9.35 13.3,9.35 ; 12.1,9.35 12.1,6.7 13.3,6.7 13.3,9.35 ; -19.13,9.85 -19.13,11.35 -16.43,11.35 -16.43,9.85 -19.13,9.85 ; -8.97,9.85 -8.97,11.35 -6.27,11.35 -6.27,9.85 -8.97,9.85 ; 1.19,9.85 1.19,11.35 3.89,11.35 3.89,9.85 1.19,9.85 ; 11.35,9.85 11.35,11.35 14.05,11.35 14.05,9.85 11.35,9.85
  text "1" at -18.03,1.35 h1.26
Mechanical 16:
  lines w0.203: -20.28,-3.65 20.26,-3.65 ; -20.13,-6.2 20.26,-6.2 ; -18.73,-3.05 -18.73,0.75 -16.78,0.75 -16.78,-3.05 -18.73,-3.05 ; -8.57,-3.05 -8.57,0.75 -6.62,0.75 -6.62,-3.05 -8.57,-3.05 ; 1.59,-3.05 1.59,0.75 3.54,0.75 3.54,-3.05 1.59,-3.05 ; 11.75,-3.05 11.75,0.75 13.7,0.75 13.7,-3.05 11.75,-3.05

## 255-405-5 [mm]
pads (10):
  oval 1.8x3.6 hole 1.2: A1(-7.5,0) A2(-2.5,0) A3(2.5,0) A4(7.5,0) A5(12.5,0) B1(-7.5,-5) B2(-2.5,-5) B3(2.5,-5) B4(7.5,-5) B5(12.5,-5)
Top Overlay:
  lines w0.203: -10.7,-3.65 -10,-3.65 ; -10.65,2.65 -5.1,2.65 ; -10.05,7.55 -10.05,-6.2 ; -9.85,7.55 -9.85,-6.2 -10.05,-6.2 ; -8.125,7.575 -10.7,7.575 -10.7,7.05 -11.05,7.05 -11.05,6.05 -10.7,6.05 -10.7,-0.55 -11.05,-0.55 -11.05,-2.35 -10.7,-2.35 -10.7,-4.35 -11.05,-4.35 -11.05,-5.35 -10.7,-5.35 -10.7,-6.2 -10.05,-6.2 ; -6.825,7.575 -3.125,7.575 ; -5.1,-6.2 -5.1,2.65 ; -5.1,7.55 -5.1,2.65 ; -4.9,-6.2 -4.9,2.65 ; -4.9,7.55 -4.9,2.65 ; -1.875,7.575 1.875,7.575 ; -0.1,-6.2 -0.1,2.65 ; -0.1,7.55 -0.1,2.65 ; 0.1,-6.2 0.1,2.65 ; 0.1,7.55 0.1,2.65 ; 3.125,7.575 6.875,7.575 ; 4.9,-6.2 4.9,2.65 ; 4.9,7.55 4.9,2.65 ; 5.1,-6.2 5.1,2.65 ; 5.1,7.55 5.1,2.65 ; 8.125,7.575 11.875,7.575 ; 9.9,-6.2 9.9,2.65 ; 9.9,7.55 9.9,2.65 ; 10.1,-6.2 10.1,2.65 ; 10.1,7.55 10.1,2.65 ; 13.125,7.575 16.625,7.575 ; 14.9,7.55 14.9,2.65 ; 14.95,-3.65 16.65,-3.65 ; 15.1,7.55 15.1,2.65 ; 16.6,2.65 15.1,2.65 ; 16.65,7.55 16.65,7.05 16.3,7.05 16.3,6.05 16.65,6.05 16.65,-0.55 16.3,-0.55 16.3,-2.35 16.65,-2.35 16.65,-3.65 ; -8.1,9.35 -9.8,9.35 -9.8,11.85 -5.2,11.85 -5.2,9.35 -6.9,9.35 ; -8.1,9.35 -6.9,9.35 ; -8.1,9.35 -8.1,6.7 -6.9,6.7 -6.9,9.35 ; -4.9,2.65 -0.1,2.65 ; -3.1,9.35 -4.8,9.35 -4.8,11.85 -0.2,11.85 -0.2,9.35 -1.9,9.35 ; -3.1,9.35 -1.9,9.35 ; -3.1,9.35 -3.1,6.7 -1.9,6.7 -1.9,9.35 ; -0.1,2.65 0.1,2.65 ; 0.1,2.65 4.9,2.65 ; 1.9,9.35 0.2,9.35 0.2,11.85 4.8,11.85 4.8,9.35 3.1,9.35 ; 1.9,9.35 3.1,9.35 ; 1.9,9.35 1.9,6.7 3.1,6.7 3.1,9.35 ; 4.9,2.65 14.9,2.65 ; 4.9,2.65 5.1,2.65 ; 5.1,2.65 9.9,2.65 ; 6.9,9.35 5.2,9.35 5.2,11.85 9.8,11.85 9.8,9.35 8.1,9.35 ; 6.9,9.35 8.1,9.35 ; 6.9,9.35 6.9,6.7 8.1,6.7 8.1,9.35 ; 9.9,2.65 10.1,2.65 ; 11.9,9.35 10.2,9.35 10.2,11.85 14.8,11.85 14.8,9.35 13.1,9.35 ; 11.9,9.35 13.1,9.35 ; 11.9,9.35 11.9,6.7 13.1,6.7 13.1,9.35 ; 14.9,2.65 15.1,2.65 ; 14.9,2.65 14.9,-6.2 15.1,-6.2 ; 15.1,-6.2 16.65,-6.2 16.65,-5.35 16.3,-5.35 16.3,-4.35 16.65,-4.35 16.65,-3.65 ; 15.1,-6.2 15.1,2.65 ; -8.85,9.85 -8.85,11.35 -6.15,11.35 -6.15,9.85 -8.85,9.85 ; -3.85,9.85 -3.85,11.35 -1.15,11.35 -1.15,9.85 -3.85,9.85 ; 1.15,9.85 1.15,11.35 3.85,11.35 3.85,9.85 1.15,9.85 ; 6.15,9.85 6.15,11.35 8.85,11.35 8.85,9.85 6.15,9.85 ; 11.15,9.85 11.15,11.35 13.85,11.35 13.85,9.85 11.15,9.85
  text "1" at -7.75,1.35 h1.26
Mechanical 16:
  lines w0.203: -10,-3.65 14.9,-3.65 ; -9.85,-6.2 14.9,-6.2 ; -8.45,-3.05 -8.45,0.75 -6.5,0.75 -6.5,-3.05 -8.45,-3.05 ; -3.5,-3.05 -3.5,0.75 -1.5,0.75 -1.5,-3.05 -3.5,-3.05 ; 1.5,-3.05 1.5,0.75 3.5,0.75 3.5,-3.05 1.5,-3.05 ; 6.5,-3.05 6.5,0.75 8.5,0.75 8.5,-3.05 6.5,-3.05 ; 11.5,-3.05 11.5,0.75 13.5,0.75 13.5,-3.05 11.5,-3.05

## 255-405-508 [mm]
pads (10):
  oval 1.8x3.6 hole 1.2: A1(-7.62,0) A2(-2.54,0) A3(2.54,0) A4(7.62,0) A5(12.7,0) B1(-7.62,-5) B2(-2.54,-5) B3(2.54,-5) B4(7.62,-5) B5(12.7,-5)
Top Overlay:
  lines w0.203: -10.82,-3.65 -10.12,-3.65 ; -10.77,2.65 -5.69,2.65 ; -10.17,7.55 -10.17,-6.2 ; -9.97,7.55 -9.97,-6.2 -10.17,-6.2 ; -8.245,7.575 -10.82,7.575 -10.82,7.05 -11.17,7.05 -11.17,6.05 -10.82,6.05 -10.82,-0.55 -11.17,-0.55 -11.17,-2.35 -10.82,-2.35 -10.82,-4.35 -11.17,-4.35 -11.17,-5.35 -10.82,-5.35 -10.82,-6.2 -10.17,-6.2 ; -6.995,7.575 -3.161,7.575 ; -5.14,-6.2 -5.14,2.65 ; -5.14,7.55 -5.14,2.65 ; -4.94,-6.2 -4.94,7.55 ; -1.915,7.575 1.93,7.575 ; -0.61,2.65 5.02,2.65 ; -0.06,-6.2 -0.06,2.65 ; -0.06,7.55 -0.06,2.65 ; 0.14,-6.2 0.14,7.55 ; 3.165,7.575 7.01,7.575 ; 4.47,2.65 10.1,2.65 ; 5.02,-6.2 5.02,2.65 ; 5.02,7.55 5.02,2.65 ; 5.22,-6.2 5.22,7.55 ; 8.245,7.575 12.09,7.575 ; 10.1,-6.2 10.1,2.65 ; 10.1,7.55 10.1,2.65 ; 10.3,-6.2 10.3,7.55 ; 13.31,7.575 16.905,7.575 ; 15.18,7.55 15.18,2.65 ; 15.23,-3.65 16.93,-3.65 ; 15.38,-6.2 15.38,7.55 ; 16.88,2.65 15.18,2.65 ; 16.93,7.55 16.93,7.05 16.58,7.05 16.58,6.05 16.93,6.05 16.93,-0.55 16.58,-0.55 16.58,-2.35 16.93,-2.35 16.93,-3.65 ; -8.22,9.35 -9.92,9.35 -9.92,11.85 -5.32,11.85 -5.32,9.35 -7.02,9.35 ; -8.22,9.35 -7.02,9.35 ; -8.22,9.35 -8.22,6.7 -7.02,6.7 -7.02,9.35 ; -5.69,2.65 -5.14,2.65 ; -5.69,2.65 -0.06,2.65 ; -5.14,2.65 -0.06,2.65 ; -3.14,9.35 -4.84,9.35 -4.84,11.85 -0.24,11.85 -0.24,9.35 -1.94,9.35 ; -3.14,9.35 -1.94,9.35 ; -3.14,9.35 -3.14,6.7 -1.94,6.7 -1.94,9.35 ; -0.06,2.65 15.18,2.65 ; -0.06,2.65 5.02,2.65 ; 1.94,9.35 0.24,9.35 0.24,11.85 4.84,11.85 4.84,9.35 3.14,9.35 ; 1.94,9.35 3.14,9.35 ; 1.94,9.35 1.94,6.7 3.14,6.7 3.14,9.35 ; 5.02,2.65 10.1,2.65 ; 7.02,9.35 5.32,9.35 5.32,11.85 9.92,11.85 9.92,9.35 8.22,9.35 ; 7.02,9.35 8.22,9.35 ; 7.02,9.35 7.02,6.7 8.22,6.7 8.22,9.35 ; 12.1,9.35 10.4,9.35 10.4,11.85 15,11.85 15,9.35 13.3,9.35 ; 12.1,9.35 13.3,9.35 ; 12.1,9.35 12.1,6.7 13.3,6.7 13.3,9.35 ; 15.18,2.65 15.18,-6.2 16.93,-6.2 16.93,-5.35 16.58,-5.35 16.58,-4.35 16.93,-4.35 16.93,-3.65 ; -8.97,9.85 -8.97,11.35 -6.27,11.35 -6.27,9.85 -8.97,9.85 ; -3.89,9.85 -3.89,11.35 -1.19,11.35 -1.19,9.85 -3.89,9.85 ; 1.19,9.85 1.19,11.35 3.89,11.35 3.89,9.85 1.19,9.85 ; 6.27,9.85 6.27,11.35 8.97,11.35 8.97,9.85 6.27,9.85 ; 11.35,9.85 11.35,11.35 14.05,11.35 14.05,9.85 11.35,9.85
  text "1" at -7.87,1.35 h1.26
Mechanical 16:
  lines w0.203: -10.12,-3.65 15.18,-3.65 ; -9.97,-6.2 15.18,-6.2 ; -8.57,-3.05 -8.57,0.75 -6.62,0.75 -6.62,-3.05 -8.57,-3.05 ; -3.49,-3.05 -3.49,0.75 -1.54,0.75 -1.54,-3.05 -3.49,-3.05 ; 1.59,-3.05 1.59,0.75 3.54,0.75 3.54,-3.05 1.59,-3.05 ; 6.67,-3.05 6.67,0.75 8.62,0.75 8.62,-3.05 6.67,-3.05 ; 11.75,-3.05 11.75,0.75 13.7,0.75 13.7,-3.05 11.75,-3.05

## 255-405-750 [mm]
pads (10):
  oval 1.8x3.6 hole 1.2: A1(-12.5,0) A2(-5,0) A3(2.5,0) A4(10,0) A5(17.5,0) B1(-12.5,-5) B2(-5,-5) B3(2.5,-5) B4(10,-5) B5(17.5,-5)
Top Overlay:
  lines w0.203: -15.7,-3.65 -15,-3.65 ; -15.65,2.65 24.1,2.65 ; -15.05,7.55 -15.05,-6.2 ; -14.85,7.55 -14.85,-6.2 -15.05,-6.2 ; -13.125,7.575 -15.7,7.575 -15.7,7.05 -16.05,7.05 -16.05,6.05 -15.7,6.05 -15.7,-0.55 -16.05,-0.55 -16.05,-2.35 -15.7,-2.35 -15.7,-4.35 -16.05,-4.35 -16.05,-5.35 -15.7,-5.35 -15.7,-6.2 -15.05,-6.2 ; -11.825,7.575 -5.625,7.575 ; -7.6,-6.2 -7.6,7.55 ; -7.4,-6.2 -7.4,7.55 ; -4.325,7.575 1.875,7.575 ; -0.1,-6.2 -0.1,7.55 ; 0.1,-6.2 0.1,7.55 ; 3.175,7.575 9.375,7.575 ; 7.4,-6.2 7.4,7.55 ; 7.6,-6.2 7.6,7.55 ; 10.675,7.575 16.875,7.575 ; 14.9,-6.2 14.9,7.55 ; 15.1,-6.2 15.1,7.55 ; 18.125,7.575 24.125,7.575 ; 22.4,7.55 22.4,-6.2 24.15,-6.2 24.15,-5.35 23.8,-5.35 23.8,-4.35 24.15,-4.35 24.15,-3.65 ; 22.45,-3.65 24.15,-3.65 ; 24.15,7.55 24.15,7.05 23.8,7.05 23.8,6.05 24.15,6.05 24.15,-0.55 23.8,-0.55 23.8,-2.35 24.15,-2.35 24.15,-3.65 ; -13.1,9.35 -14.8,9.35 -14.8,11.85 -10.2,11.85 -10.2,9.35 -11.9,9.35 ; -13.1,9.35 -11.9,9.35 ; -13.1,9.35 -13.1,6.7 -11.9,6.7 -11.9,9.35 ; -5.6,9.35 -7.3,9.35 -7.3,11.85 -2.7,11.85 -2.7,9.35 -4.4,9.35 ; -5.6,9.35 -4.4,9.35 ; -5.6,9.35 -5.6,6.7 -4.4,6.7 -4.4,9.35 ; 1.9,9.35 0.2,9.35 0.2,11.85 4.8,11.85 4.8,9.35 3.1,9.35 ; 1.9,9.35 3.1,9.35 ; 1.9,9.35 1.9,6.7 3.1,6.7 3.1,9.35 ; 9.4,9.35 7.7,9.35 7.7,11.85 12.3,11.85 12.3,9.35 10.6,9.35 ; 9.4,9.35 10.6,9.35 ; 9.4,9.35 9.4,6.7 10.6,6.7 10.6,9.35 ; 16.9,9.35 15.2,9.35 15.2,11.85 19.8,11.85 19.8,9.35 18.1,9.35 ; 16.9,9.35 18.1,9.35 ; 16.9,9.35 16.9,6.7 18.1,6.7 18.1,9.35 ; -13.85,9.85 -13.85,11.35 -11.15,11.35 -11.15,9.85 -13.85,9.85 ; -6.35,9.85 -6.35,11.35 -3.65,11.35 -3.65,9.85 -6.35,9.85 ; 1.15,9.85 1.15,11.35 3.85,11.35 3.85,9.85 1.15,9.85 ; 8.65,9.85 8.65,11.35 11.35,11.35 11.35,9.85 8.65,9.85 ; 16.15,9.85 16.15,11.35 18.85,11.35 18.85,9.85 16.15,9.85
  text "1" at -12.75,1.35 h1.26
Mechanical 16:
  lines w0.203: -15,-3.65 22.4,-3.65 ; -14.85,-6.2 22.4,-6.2 ; -13.45,-3.05 -13.45,0.75 -11.5,0.75 -11.5,-3.05 -13.45,-3.05 ; -6,-3.05 -6,0.75 -4,0.75 -4,-3.05 -6,-3.05 ; 1.5,-3.05 1.5,0.75 3.5,0.75 3.5,-3.05 1.5,-3.05 ; 9,-3.05 9,0.75 11,0.75 11,-3.05 9,-3.05 ; 16.5,-3.05 16.5,0.75 18.5,0.75 18.5,-3.05 16.5,-3.05